# Altium schematic symbol library kmilo17pet-Microchip_MixedSignal.SchLib: 1399 symbols (part 19 of 36)
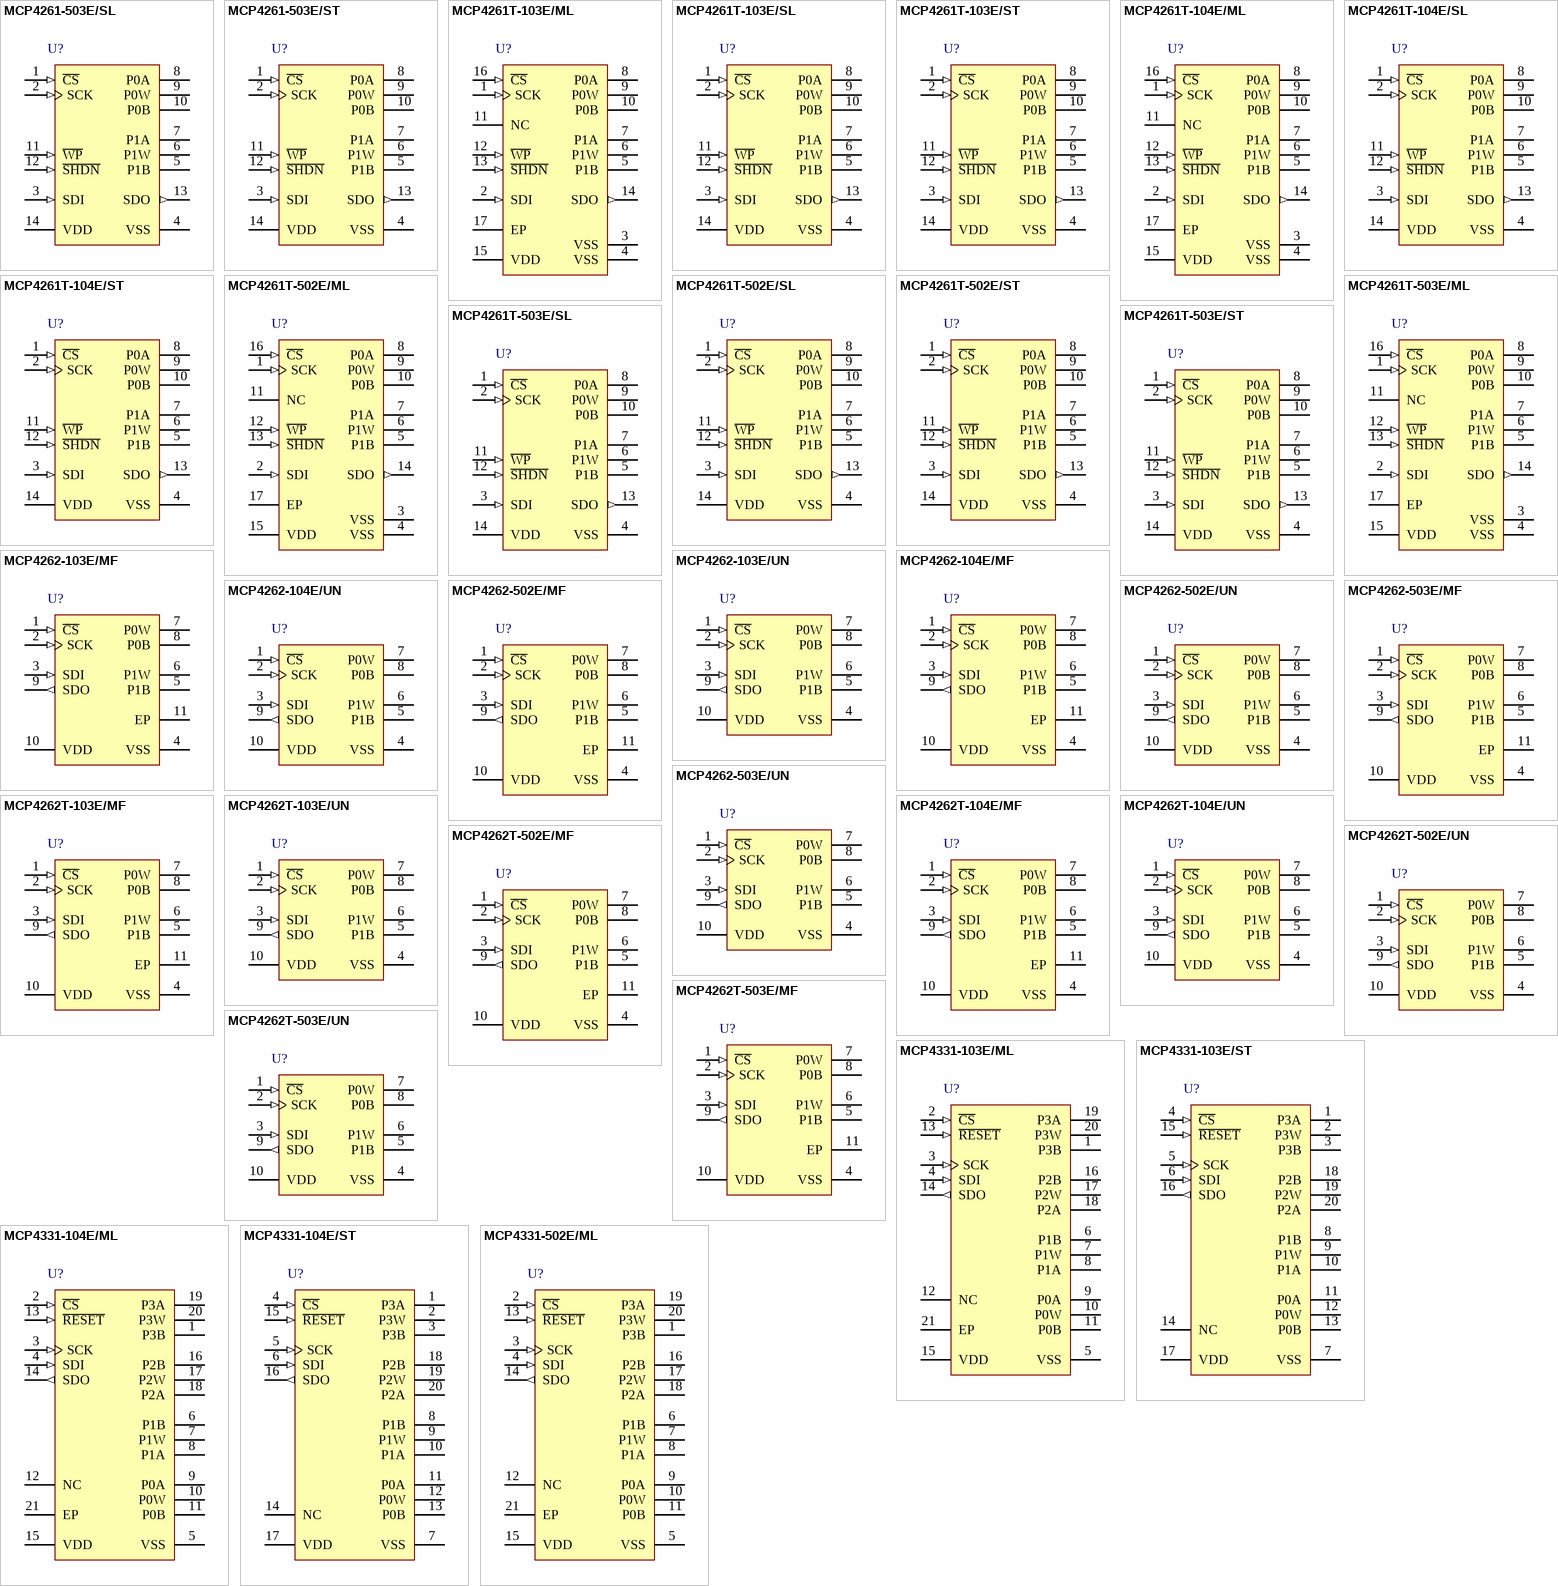
[diagram p62: symbols MCP4261-503E/SL to MCP4331-502E/ML]

## MCP4331-103E/ML
designator U?
7/8-Bit Quad SPI Digital POT with Volatile Memory, 20-Pin QFN, Extended Temperature; Manufacturer: Microchip; PartNumber: MCP4331-103E/ML; DatasheetVersion: revA, Mar-2010; PackageVersion: revBB, Aug-2009; PackageReference: QFN-ML20; PackageDescription: 20-Lead Plastic Quad Flat, No Lead Package (ML) - 4x4x0.9 mm Body [QFN]; Supplier 1: Digi-Key; Supplier Part Number 1: MCP4331-103E/ML-ND; Mounting Technology: Surface Mount; ComponentLink1Description: Manufacturer URL; ComponentLink1URL: http://www.microchip.com/; ComponentLink2Description: Datasheet; ComponentLink2URL: http://ww1.microchip.com/downloads/en/DeviceDoc/22242A.pdf; ComponentLink3Description: Package Specification; ComponentLink3URL: http://www.microchip.com/stellent/groups/techpub_sg/documents/packagingspec/en012702.pdf
footprint QFN-ML20_N (QFN, 20-Leads, Body 4x4mm, Pitch 0.5mm, Thermal Pad 2.8x2.8mm, IPC Medium Density)
footprint QFN-ML20_L (QFN, 20-Leads, Body 4x4mm, Pitch 0.5mm, Thermal Pad 2.8x2.8mm, IPC High Density)
footprint QFN-ML20_M (QFN, 20-Leads, Body 4x4mm, Pitch 0.5mm, Thermal Pad 2.8x2.8mm, IPC Low Density)
pins: 1 P3B, 2 ~{CS} (in), 3 SCK (in), 4 SDI (in), 5 VSS (power), 6 P1B, 7 P1W, 8 P1A, 9 P0A, 10 P0W, 11 P0B, 12 NC, 13 ~{RESET} (in), 14 SDO (out), 15 VDD (power), 16 P2B, 17 P2W, 18 P2A, 19 P3A, 20 P3W, 21 EP

## MCP4331-103E/ST
designator U?
7/8-Bit Quad SPI Digital POT with Volatile Memory, 20-Pin TSSOP, Extended Temperature; Manufacturer: Microchip; PartNumber: MCP4331-103E/ST; DatasheetVersion: revA, Mar-2010; PackageVersion: revBB, Aug-2009; PackageReference: TSSOP-ST20; PackageDescription: 20-Lead Plastic Thin Shrink Small Outline (ST) - 4.4mm Body [TSSOP]; Supplier 1: Digi-Key; Supplier Part Number 1: MCP4331-103E/ST-ND; Mounting Technology: Surface Mount; Code_JEDEC: MO-153-AC; ComponentLink1Description: Manufacturer URL; ComponentLink1URL: http://www.microchip.com/; ComponentLink2Description: Datasheet; ComponentLink2URL: http://ww1.microchip.com/downloads/en/DeviceDoc/22242A.pdf; ComponentLink3Description: Package Specification; ComponentLink3URL: http://www.microchip.com/stellent/groups/techpub_sg/documents/packagingspec/en012702.pdf
footprint TSSOP-ST20_N (TSOP, 20-Leads, Body 6.5x4.4mm, Pitch 0.65mm, IPC Medium Density)
footprint TSSOP-ST20_L (TSOP, 20-Leads, Body 6.5x4.4mm, Pitch 0.65mm, IPC High Density)
footprint TSSOP-ST20_M (TSOP, 20-Leads, Body 6.5x4.4mm, Pitch 0.65mm, IPC Low Density)
pins: 1 P3A, 2 P3W, 3 P3B, 4 ~{CS} (in), 5 SCK (in), 6 SDI (in), 7 VSS (power), 8 P1B, 9 P1W, 10 P1A, 11 P0A, 12 P0W, 13 P0B, 14 NC, 15 ~{RESET} (in), 16 SDO (out), 17 VDD (power), 18 P2B, 19 P2W, 20 P2A

## MCP4331-104E/ML
designator U?
7/8-Bit Quad SPI Digital POT with Volatile Memory, 20-Pin QFN, Extended Temperature; Manufacturer: Microchip; PartNumber: MCP4331-104E/ML; DatasheetVersion: revA, Mar-2010; PackageVersion: revBB, Aug-2009; PackageReference: QFN-ML20; PackageDescription: 20-Lead Plastic Quad Flat, No Lead Package (ML) - 4x4x0.9 mm Body [QFN]; Supplier 1: Digi-Key; Supplier Part Number 1: MCP4331-104E/ML-ND; Mounting Technology: Surface Mount; ComponentLink1Description: Manufacturer URL; ComponentLink1URL: http://www.microchip.com/; ComponentLink2Description: Datasheet; ComponentLink2URL: http://ww1.microchip.com/downloads/en/DeviceDoc/22242A.pdf; ComponentLink3Description: Package Specification; ComponentLink3URL: http://www.microchip.com/stellent/groups/techpub_sg/documents/packagingspec/en012702.pdf
footprint QFN-ML20_N (QFN, 20-Leads, Body 4x4mm, Pitch 0.5mm, Thermal Pad 2.8x2.8mm, IPC Medium Density)
footprint QFN-ML20_L (QFN, 20-Leads, Body 4x4mm, Pitch 0.5mm, Thermal Pad 2.8x2.8mm, IPC High Density)
footprint QFN-ML20_M (QFN, 20-Leads, Body 4x4mm, Pitch 0.5mm, Thermal Pad 2.8x2.8mm, IPC Low Density)
pins: 1 P3B, 2 ~{CS} (in), 3 SCK (in), 4 SDI (in), 5 VSS (power), 6 P1B, 7 P1W, 8 P1A, 9 P0A, 10 P0W, 11 P0B, 12 NC, 13 ~{RESET} (in), 14 SDO (out), 15 VDD (power), 16 P2B, 17 P2W, 18 P2A, 19 P3A, 20 P3W, 21 EP

## MCP4331-104E/ST
designator U?
7/8-Bit Quad SPI Digital POT with Volatile Memory, 20-Pin TSSOP, Extended Temperature; Manufacturer: Microchip; PartNumber: MCP4331-104E/ST; DatasheetVersion: revA, Mar-2010; PackageVersion: revBB, Aug-2009; PackageReference: TSSOP-ST20; PackageDescription: 20-Lead Plastic Thin Shrink Small Outline (ST) - 4.4mm Body [TSSOP]; Supplier 1: Digi-Key; Supplier Part Number 1: MCP4331-104E/ST-ND; Mounting Technology: Surface Mount; Code_JEDEC: MO-153-AC; ComponentLink1Description: Manufacturer URL; ComponentLink1URL: http://www.microchip.com/; ComponentLink2Description: Datasheet; ComponentLink2URL: http://ww1.microchip.com/downloads/en/DeviceDoc/22242A.pdf; ComponentLink3Description: Package Specification; ComponentLink3URL: http://www.microchip.com/stellent/groups/techpub_sg/documents/packagingspec/en012702.pdf
footprint TSSOP-ST20_N (TSOP, 20-Leads, Body 6.5x4.4mm, Pitch 0.65mm, IPC Medium Density)
footprint TSSOP-ST20_L (TSOP, 20-Leads, Body 6.5x4.4mm, Pitch 0.65mm, IPC High Density)
footprint TSSOP-ST20_M (TSOP, 20-Leads, Body 6.5x4.4mm, Pitch 0.65mm, IPC Low Density)
pins: 1 P3A, 2 P3W, 3 P3B, 4 ~{CS} (in), 5 SCK (in), 6 SDI (in), 7 VSS (power), 8 P1B, 9 P1W, 10 P1A, 11 P0A, 12 P0W, 13 P0B, 14 NC, 15 ~{RESET} (in), 16 SDO (out), 17 VDD (power), 18 P2B, 19 P2W, 20 P2A

## MCP4331-502E/ML
designator U?
7/8-Bit Quad SPI Digital POT with Volatile Memory, 20-Pin QFN, Extended Temperature; Manufacturer: Microchip; PartNumber: MCP4331-502E/ML; DatasheetVersion: revA, Mar-2010; PackageVersion: revBB, Aug-2009; PackageReference: QFN-ML20; PackageDescription: 20-Lead Plastic Quad Flat, No Lead Package (ML) - 4x4x0.9 mm Body [QFN]; Supplier 1: Digi-Key; Supplier Part Number 1: MCP4331-502E/ML-ND; Mounting Technology: Surface Mount; ComponentLink1Description: Manufacturer URL; ComponentLink1URL: http://www.microchip.com/; ComponentLink2Description: Datasheet; ComponentLink2URL: http://ww1.microchip.com/downloads/en/DeviceDoc/22242A.pdf; ComponentLink3Description: Package Specification; ComponentLink3URL: http://www.microchip.com/stellent/groups/techpub_sg/documents/packagingspec/en012702.pdf
footprint QFN-ML20_N (QFN, 20-Leads, Body 4x4mm, Pitch 0.5mm, Thermal Pad 2.8x2.8mm, IPC Medium Density)
footprint QFN-ML20_L (QFN, 20-Leads, Body 4x4mm, Pitch 0.5mm, Thermal Pad 2.8x2.8mm, IPC High Density)
footprint QFN-ML20_M (QFN, 20-Leads, Body 4x4mm, Pitch 0.5mm, Thermal Pad 2.8x2.8mm, IPC Low Density)
pins: 1 P3B, 2 ~{CS} (in), 3 SCK (in), 4 SDI (in), 5 VSS (power), 6 P1B, 7 P1W, 8 P1A, 9 P0A, 10 P0W, 11 P0B, 12 NC, 13 ~{RESET} (in), 14 SDO (out), 15 VDD (power), 16 P2B, 17 P2W, 18 P2A, 19 P3A, 20 P3W, 21 EP

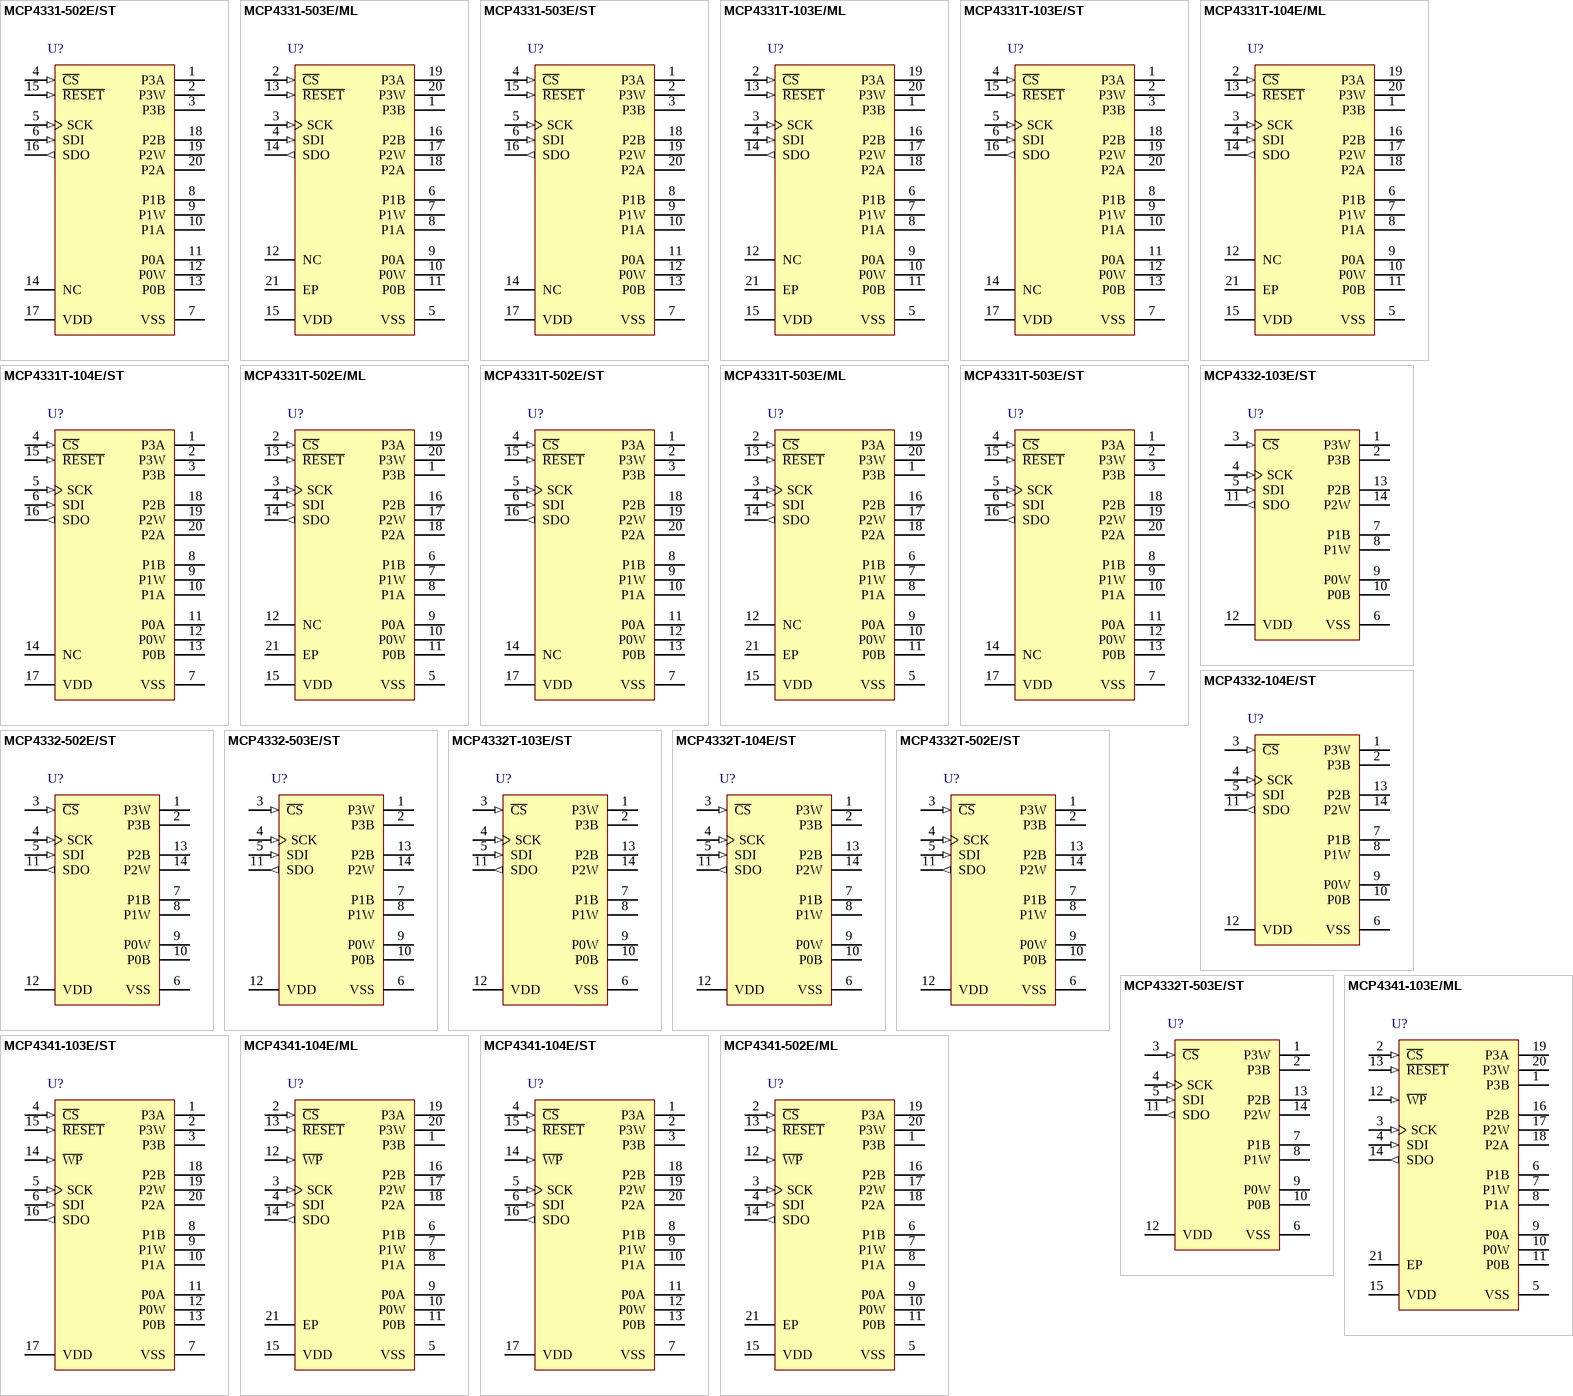
[diagram p20: symbols MCP4331-502E/ST to MCP4341-502E/ML]

## MCP4331-502E/ST
designator U?
7/8-Bit Quad SPI Digital POT with Volatile Memory, 20-Pin TSSOP, Extended Temperature; Manufacturer: Microchip; PartNumber: MCP4331-502E/ST; DatasheetVersion: revA, Mar-2010; PackageVersion: revBB, Aug-2009; PackageReference: TSSOP-ST20; PackageDescription: 20-Lead Plastic Thin Shrink Small Outline (ST) - 4.4mm Body [TSSOP]; Supplier 1: Digi-Key; Supplier Part Number 1: MCP4331-502E/ST-ND; Mounting Technology: Surface Mount; Code_JEDEC: MO-153-AC; ComponentLink1Description: Manufacturer URL; ComponentLink1URL: http://www.microchip.com/; ComponentLink2Description: Datasheet; ComponentLink2URL: http://ww1.microchip.com/downloads/en/DeviceDoc/22242A.pdf; ComponentLink3Description: Package Specification; ComponentLink3URL: http://www.microchip.com/stellent/groups/techpub_sg/documents/packagingspec/en012702.pdf
footprint TSSOP-ST20_N (TSOP, 20-Leads, Body 6.5x4.4mm, Pitch 0.65mm, IPC Medium Density)
footprint TSSOP-ST20_L (TSOP, 20-Leads, Body 6.5x4.4mm, Pitch 0.65mm, IPC High Density)
footprint TSSOP-ST20_M (TSOP, 20-Leads, Body 6.5x4.4mm, Pitch 0.65mm, IPC Low Density)
pins: 1 P3A, 2 P3W, 3 P3B, 4 ~{CS} (in), 5 SCK (in), 6 SDI (in), 7 VSS (power), 8 P1B, 9 P1W, 10 P1A, 11 P0A, 12 P0W, 13 P0B, 14 NC, 15 ~{RESET} (in), 16 SDO (out), 17 VDD (power), 18 P2B, 19 P2W, 20 P2A

## MCP4331-503E/ML
designator U?
7/8-Bit Quad SPI Digital POT with Volatile Memory, 20-Pin QFN, Extended Temperature; Manufacturer: Microchip; PartNumber: MCP4331-503E/ML; DatasheetVersion: revA, Mar-2010; PackageVersion: revBB, Aug-2009; PackageReference: QFN-ML20; PackageDescription: 20-Lead Plastic Quad Flat, No Lead Package (ML) - 4x4x0.9 mm Body [QFN]; Supplier 1: Digi-Key; Supplier Part Number 1: MCP4331-503E/ML-ND; Mounting Technology: Surface Mount; ComponentLink1Description: Manufacturer URL; ComponentLink1URL: http://www.microchip.com/; ComponentLink2Description: Datasheet; ComponentLink2URL: http://ww1.microchip.com/downloads/en/DeviceDoc/22242A.pdf; ComponentLink3Description: Package Specification; ComponentLink3URL: http://www.microchip.com/stellent/groups/techpub_sg/documents/packagingspec/en012702.pdf
footprint QFN-ML20_N (QFN, 20-Leads, Body 4x4mm, Pitch 0.5mm, Thermal Pad 2.8x2.8mm, IPC Medium Density)
footprint QFN-ML20_L (QFN, 20-Leads, Body 4x4mm, Pitch 0.5mm, Thermal Pad 2.8x2.8mm, IPC High Density)
footprint QFN-ML20_M (QFN, 20-Leads, Body 4x4mm, Pitch 0.5mm, Thermal Pad 2.8x2.8mm, IPC Low Density)
pins: 1 P3B, 2 ~{CS} (in), 3 SCK (in), 4 SDI (in), 5 VSS (power), 6 P1B, 7 P1W, 8 P1A, 9 P0A, 10 P0W, 11 P0B, 12 NC, 13 ~{RESET} (in), 14 SDO (out), 15 VDD (power), 16 P2B, 17 P2W, 18 P2A, 19 P3A, 20 P3W, 21 EP

## MCP4331-503E/ST
designator U?
7/8-Bit Quad SPI Digital POT with Volatile Memory, 20-Pin TSSOP, Extended Temperature; Manufacturer: Microchip; PartNumber: MCP4331-503E/ST; DatasheetVersion: revA, Mar-2010; PackageVersion: revBB, Aug-2009; PackageReference: TSSOP-ST20; PackageDescription: 20-Lead Plastic Thin Shrink Small Outline (ST) - 4.4mm Body [TSSOP]; Supplier 1: Digi-Key; Supplier Part Number 1: MCP4331-503E/ST-ND; Mounting Technology: Surface Mount; Code_JEDEC: MO-153-AC; ComponentLink1Description: Manufacturer URL; ComponentLink1URL: http://www.microchip.com/; ComponentLink2Description: Datasheet; ComponentLink2URL: http://ww1.microchip.com/downloads/en/DeviceDoc/22242A.pdf; ComponentLink3Description: Package Specification; ComponentLink3URL: http://www.microchip.com/stellent/groups/techpub_sg/documents/packagingspec/en012702.pdf
footprint TSSOP-ST20_N (TSOP, 20-Leads, Body 6.5x4.4mm, Pitch 0.65mm, IPC Medium Density)
footprint TSSOP-ST20_L (TSOP, 20-Leads, Body 6.5x4.4mm, Pitch 0.65mm, IPC High Density)
footprint TSSOP-ST20_M (TSOP, 20-Leads, Body 6.5x4.4mm, Pitch 0.65mm, IPC Low Density)
pins: 1 P3A, 2 P3W, 3 P3B, 4 ~{CS} (in), 5 SCK (in), 6 SDI (in), 7 VSS (power), 8 P1B, 9 P1W, 10 P1A, 11 P0A, 12 P0W, 13 P0B, 14 NC, 15 ~{RESET} (in), 16 SDO (out), 17 VDD (power), 18 P2B, 19 P2W, 20 P2A

## MCP4331T-103E/ML
designator U?
7/8-Bit Quad SPI Digital POT with Volatile Memory, 20-Pin QFN, Extended Temperature, Tape and Reel; Manufacturer: Microchip; PartNumber: MCP4331T-103E/ML; DatasheetVersion: revA, Mar-2010; PackageVersion: revBB, Aug-2009; PackageReference: QFN-ML20; PackageDescription: 20-Lead Plastic Quad Flat, No Lead Package (ML) - 4x4x0.9 mm Body [QFN]; Supplier 1: Digi-Key; Supplier Part Number 1: MCP4331T-103E/ML-ND; Mounting Technology: Surface Mount; ComponentLink1Description: Manufacturer URL; ComponentLink1URL: http://www.microchip.com/; ComponentLink2Description: Datasheet; ComponentLink2URL: http://ww1.microchip.com/downloads/en/DeviceDoc/22242A.pdf; ComponentLink3Description: Package Specification; ComponentLink3URL: http://www.microchip.com/stellent/groups/techpub_sg/documents/packagingspec/en012702.pdf
footprint QFN-ML20_N (QFN, 20-Leads, Body 4x4mm, Pitch 0.5mm, Thermal Pad 2.8x2.8mm, IPC Medium Density)
footprint QFN-ML20_L (QFN, 20-Leads, Body 4x4mm, Pitch 0.5mm, Thermal Pad 2.8x2.8mm, IPC High Density)
footprint QFN-ML20_M (QFN, 20-Leads, Body 4x4mm, Pitch 0.5mm, Thermal Pad 2.8x2.8mm, IPC Low Density)
pins: 1 P3B, 2 ~{CS} (in), 3 SCK (in), 4 SDI (in), 5 VSS (power), 6 P1B, 7 P1W, 8 P1A, 9 P0A, 10 P0W, 11 P0B, 12 NC, 13 ~{RESET} (in), 14 SDO (out), 15 VDD (power), 16 P2B, 17 P2W, 18 P2A, 19 P3A, 20 P3W, 21 EP

## MCP4331T-103E/ST
designator U?
7/8-Bit Quad SPI Digital POT with Volatile Memory, 20-Pin TSSOP, Extended Temperature, Tape and Reel; Manufacturer: Microchip; PartNumber: MCP4331T-103E/ST; DatasheetVersion: revA, Mar-2010; PackageVersion: revBB, Aug-2009; PackageReference: TSSOP-ST20; PackageDescription: 20-Lead Plastic Thin Shrink Small Outline (ST) - 4.4mm Body [TSSOP]; Supplier 1: Digi-Key; Supplier Part Number 1: MCP4331T-103E/ST-ND; Mounting Technology: Surface Mount; Code_JEDEC: MO-153-AC; ComponentLink1Description: Manufacturer URL; ComponentLink1URL: http://www.microchip.com/; ComponentLink2Description: Datasheet; ComponentLink2URL: http://ww1.microchip.com/downloads/en/DeviceDoc/22242A.pdf; ComponentLink3Description: Package Specification; ComponentLink3URL: http://www.microchip.com/stellent/groups/techpub_sg/documents/packagingspec/en012702.pdf
footprint TSSOP-ST20_N (TSOP, 20-Leads, Body 6.5x4.4mm, Pitch 0.65mm, IPC Medium Density)
footprint TSSOP-ST20_L (TSOP, 20-Leads, Body 6.5x4.4mm, Pitch 0.65mm, IPC High Density)
footprint TSSOP-ST20_M (TSOP, 20-Leads, Body 6.5x4.4mm, Pitch 0.65mm, IPC Low Density)
pins: 1 P3A, 2 P3W, 3 P3B, 4 ~{CS} (in), 5 SCK (in), 6 SDI (in), 7 VSS (power), 8 P1B, 9 P1W, 10 P1A, 11 P0A, 12 P0W, 13 P0B, 14 NC, 15 ~{RESET} (in), 16 SDO (out), 17 VDD (power), 18 P2B, 19 P2W, 20 P2A

## MCP4331T-104E/ML
designator U?
7/8-Bit Quad SPI Digital POT with Volatile Memory, 20-Pin QFN, Extended Temperature, Tape and Reel; Manufacturer: Microchip; PartNumber: MCP4331T-104E/ML; DatasheetVersion: revA, Mar-2010; PackageVersion: revBB, Aug-2009; PackageReference: QFN-ML20; PackageDescription: 20-Lead Plastic Quad Flat, No Lead Package (ML) - 4x4x0.9 mm Body [QFN]; Supplier 1: Digi-Key; Supplier Part Number 1: MCP4331T-104E/ML-ND; Mounting Technology: Surface Mount; ComponentLink1Description: Manufacturer URL; ComponentLink1URL: http://www.microchip.com/; ComponentLink2Description: Datasheet; ComponentLink2URL: http://ww1.microchip.com/downloads/en/DeviceDoc/22242A.pdf; ComponentLink3Description: Package Specification; ComponentLink3URL: http://www.microchip.com/stellent/groups/techpub_sg/documents/packagingspec/en012702.pdf
footprint QFN-ML20_N (QFN, 20-Leads, Body 4x4mm, Pitch 0.5mm, Thermal Pad 2.8x2.8mm, IPC Medium Density)
footprint QFN-ML20_L (QFN, 20-Leads, Body 4x4mm, Pitch 0.5mm, Thermal Pad 2.8x2.8mm, IPC High Density)
footprint QFN-ML20_M (QFN, 20-Leads, Body 4x4mm, Pitch 0.5mm, Thermal Pad 2.8x2.8mm, IPC Low Density)
pins: 1 P3B, 2 ~{CS} (in), 3 SCK (in), 4 SDI (in), 5 VSS (power), 6 P1B, 7 P1W, 8 P1A, 9 P0A, 10 P0W, 11 P0B, 12 NC, 13 ~{RESET} (in), 14 SDO (out), 15 VDD (power), 16 P2B, 17 P2W, 18 P2A, 19 P3A, 20 P3W, 21 EP

## MCP4331T-104E/ST
designator U?
7/8-Bit Quad SPI Digital POT with Volatile Memory, 20-Pin TSSOP, Extended Temperature, Tape and Reel; Manufacturer: Microchip; PartNumber: MCP4331T-104E/ST; DatasheetVersion: revA, Mar-2010; PackageVersion: revBB, Aug-2009; PackageReference: TSSOP-ST20; PackageDescription: 20-Lead Plastic Thin Shrink Small Outline (ST) - 4.4mm Body [TSSOP]; Supplier 1: Digi-Key; Supplier Part Number 1: MCP4331T-104E/ST-ND; Mounting Technology: Surface Mount; Code_JEDEC: MO-153-AC; ComponentLink1Description: Manufacturer URL; ComponentLink1URL: http://www.microchip.com/; ComponentLink2Description: Datasheet; ComponentLink2URL: http://ww1.microchip.com/downloads/en/DeviceDoc/22242A.pdf; ComponentLink3Description: Package Specification; ComponentLink3URL: http://www.microchip.com/stellent/groups/techpub_sg/documents/packagingspec/en012702.pdf
footprint TSSOP-ST20_N (TSOP, 20-Leads, Body 6.5x4.4mm, Pitch 0.65mm, IPC Medium Density)
footprint TSSOP-ST20_L (TSOP, 20-Leads, Body 6.5x4.4mm, Pitch 0.65mm, IPC High Density)
footprint TSSOP-ST20_M (TSOP, 20-Leads, Body 6.5x4.4mm, Pitch 0.65mm, IPC Low Density)
pins: 1 P3A, 2 P3W, 3 P3B, 4 ~{CS} (in), 5 SCK (in), 6 SDI (in), 7 VSS (power), 8 P1B, 9 P1W, 10 P1A, 11 P0A, 12 P0W, 13 P0B, 14 NC, 15 ~{RESET} (in), 16 SDO (out), 17 VDD (power), 18 P2B, 19 P2W, 20 P2A

## MCP4331T-502E/ML
designator U?
7/8-Bit Quad SPI Digital POT with Volatile Memory, 20-Pin QFN, Extended Temperature, Tape and Reel; Manufacturer: Microchip; PartNumber: MCP4331T-502E/ML; DatasheetVersion: revA, Mar-2010; PackageVersion: revBB, Aug-2009; PackageReference: QFN-ML20; PackageDescription: 20-Lead Plastic Quad Flat, No Lead Package (ML) - 4x4x0.9 mm Body [QFN]; Supplier 1: Digi-Key; Supplier Part Number 1: MCP4331T-502E/ML-ND; Mounting Technology: Surface Mount; ComponentLink1Description: Manufacturer URL; ComponentLink1URL: http://www.microchip.com/; ComponentLink2Description: Datasheet; ComponentLink2URL: http://ww1.microchip.com/downloads/en/DeviceDoc/22242A.pdf; ComponentLink3Description: Package Specification; ComponentLink3URL: http://www.microchip.com/stellent/groups/techpub_sg/documents/packagingspec/en012702.pdf
footprint QFN-ML20_N (QFN, 20-Leads, Body 4x4mm, Pitch 0.5mm, Thermal Pad 2.8x2.8mm, IPC Medium Density)
footprint QFN-ML20_L (QFN, 20-Leads, Body 4x4mm, Pitch 0.5mm, Thermal Pad 2.8x2.8mm, IPC High Density)
footprint QFN-ML20_M (QFN, 20-Leads, Body 4x4mm, Pitch 0.5mm, Thermal Pad 2.8x2.8mm, IPC Low Density)
pins: 1 P3B, 2 ~{CS} (in), 3 SCK (in), 4 SDI (in), 5 VSS (power), 6 P1B, 7 P1W, 8 P1A, 9 P0A, 10 P0W, 11 P0B, 12 NC, 13 ~{RESET} (in), 14 SDO (out), 15 VDD (power), 16 P2B, 17 P2W, 18 P2A, 19 P3A, 20 P3W, 21 EP

## MCP4331T-502E/ST
designator U?
7/8-Bit Quad SPI Digital POT with Volatile Memory, 20-Pin TSSOP, Extended Temperature, Tape and Reel; Manufacturer: Microchip; PartNumber: MCP4331T-502E/ST; DatasheetVersion: revA, Mar-2010; PackageVersion: revBB, Aug-2009; PackageReference: TSSOP-ST20; PackageDescription: 20-Lead Plastic Thin Shrink Small Outline (ST) - 4.4mm Body [TSSOP]; Supplier 1: Digi-Key; Supplier Part Number 1: MCP4331T-502E/ST-ND; Mounting Technology: Surface Mount; Code_JEDEC: MO-153-AC; ComponentLink1Description: Manufacturer URL; ComponentLink1URL: http://www.microchip.com/; ComponentLink2Description: Datasheet; ComponentLink2URL: http://ww1.microchip.com/downloads/en/DeviceDoc/22242A.pdf; ComponentLink3Description: Package Specification; ComponentLink3URL: http://www.microchip.com/stellent/groups/techpub_sg/documents/packagingspec/en012702.pdf
footprint TSSOP-ST20_N (TSOP, 20-Leads, Body 6.5x4.4mm, Pitch 0.65mm, IPC Medium Density)
footprint TSSOP-ST20_L (TSOP, 20-Leads, Body 6.5x4.4mm, Pitch 0.65mm, IPC High Density)
footprint TSSOP-ST20_M (TSOP, 20-Leads, Body 6.5x4.4mm, Pitch 0.65mm, IPC Low Density)
pins: 1 P3A, 2 P3W, 3 P3B, 4 ~{CS} (in), 5 SCK (in), 6 SDI (in), 7 VSS (power), 8 P1B, 9 P1W, 10 P1A, 11 P0A, 12 P0W, 13 P0B, 14 NC, 15 ~{RESET} (in), 16 SDO (out), 17 VDD (power), 18 P2B, 19 P2W, 20 P2A

## MCP4331T-503E/ML
designator U?
7/8-Bit Quad SPI Digital POT with Volatile Memory, 20-Pin QFN, Extended Temperature, Tape and Reel; Manufacturer: Microchip; PartNumber: MCP4331T-503E/ML; DatasheetVersion: revA, Mar-2010; PackageVersion: revBB, Aug-2009; PackageReference: QFN-ML20; PackageDescription: 20-Lead Plastic Quad Flat, No Lead Package (ML) - 4x4x0.9 mm Body [QFN]; Supplier 1: Digi-Key; Supplier Part Number 1: MCP4331T-503E/ML-ND; Mounting Technology: Surface Mount; ComponentLink1Description: Manufacturer URL; ComponentLink1URL: http://www.microchip.com/; ComponentLink2Description: Datasheet; ComponentLink2URL: http://ww1.microchip.com/downloads/en/DeviceDoc/22242A.pdf; ComponentLink3Description: Package Specification; ComponentLink3URL: http://www.microchip.com/stellent/groups/techpub_sg/documents/packagingspec/en012702.pdf
footprint QFN-ML20_N (QFN, 20-Leads, Body 4x4mm, Pitch 0.5mm, Thermal Pad 2.8x2.8mm, IPC Medium Density)
footprint QFN-ML20_L (QFN, 20-Leads, Body 4x4mm, Pitch 0.5mm, Thermal Pad 2.8x2.8mm, IPC High Density)
footprint QFN-ML20_M (QFN, 20-Leads, Body 4x4mm, Pitch 0.5mm, Thermal Pad 2.8x2.8mm, IPC Low Density)
pins: 1 P3B, 2 ~{CS} (in), 3 SCK (in), 4 SDI (in), 5 VSS (power), 6 P1B, 7 P1W, 8 P1A, 9 P0A, 10 P0W, 11 P0B, 12 NC, 13 ~{RESET} (in), 14 SDO (out), 15 VDD (power), 16 P2B, 17 P2W, 18 P2A, 19 P3A, 20 P3W, 21 EP

## MCP4331T-503E/ST
designator U?
7/8-Bit Quad SPI Digital POT with Volatile Memory, 20-Pin TSSOP, Extended Temperature, Tape and Reel; Manufacturer: Microchip; PartNumber: MCP4331T-503E/ST; DatasheetVersion: revA, Mar-2010; PackageVersion: revBB, Aug-2009; PackageReference: TSSOP-ST20; PackageDescription: 20-Lead Plastic Thin Shrink Small Outline (ST) - 4.4mm Body [TSSOP]; Supplier 1: Digi-Key; Supplier Part Number 1: MCP4331T-503E/ST-ND; Mounting Technology: Surface Mount; Code_JEDEC: MO-153-AC; ComponentLink1Description: Manufacturer URL; ComponentLink1URL: http://www.microchip.com/; ComponentLink2Description: Datasheet; ComponentLink2URL: http://ww1.microchip.com/downloads/en/DeviceDoc/22242A.pdf; ComponentLink3Description: Package Specification; ComponentLink3URL: http://www.microchip.com/stellent/groups/techpub_sg/documents/packagingspec/en012702.pdf
footprint TSSOP-ST20_N (TSOP, 20-Leads, Body 6.5x4.4mm, Pitch 0.65mm, IPC Medium Density)
footprint TSSOP-ST20_L (TSOP, 20-Leads, Body 6.5x4.4mm, Pitch 0.65mm, IPC High Density)
footprint TSSOP-ST20_M (TSOP, 20-Leads, Body 6.5x4.4mm, Pitch 0.65mm, IPC Low Density)
pins: 1 P3A, 2 P3W, 3 P3B, 4 ~{CS} (in), 5 SCK (in), 6 SDI (in), 7 VSS (power), 8 P1B, 9 P1W, 10 P1A, 11 P0A, 12 P0W, 13 P0B, 14 NC, 15 ~{RESET} (in), 16 SDO (out), 17 VDD (power), 18 P2B, 19 P2W, 20 P2A

## MCP4332-103E/ST
designator U?
7/8-Bit Quad SPI Digital POT with Volatile Memory, 14-Pin TSSOP, Extended Temperature; Manufacturer: Microchip; PartNumber: MCP4332-103E/ST; DatasheetVersion: revA, Mar-2010; PackageVersion: revBB, Aug-2009; PackageReference: TSSOP-ST14; PackageDescription: 14-Lead Plastic Thin Shrink Small Outline (ST) - 4.4mm Body [TSSOP]; Supplier 1: Digi-Key; Supplier Part Number 1: MCP4332-103E/ST-ND; Mounting Technology: Surface Mount; ComponentLink1Description: Manufacturer URL; ComponentLink1URL: http://www.microchip.com/; ComponentLink2Description: Datasheet; ComponentLink2URL: http://ww1.microchip.com/downloads/en/DeviceDoc/22242A.pdf; ComponentLink3Description: Package Specification; ComponentLink3URL: http://www.microchip.com/stellent/groups/techpub_sg/documents/packagingspec/en012702.pdf
footprint TSSOP-ST14_N (TSOP, 14-Leads, Body 5x4.4mm, Pitch 0.65mm, IPC Medium Density)
footprint TSSOP-ST14_L (TSOP, 14-Leads, Body 5x4.4mm, Pitch 0.65mm, IPC High Density)
footprint TSSOP-ST14_M (TSOP, 14-Leads, Body 5x4.4mm, Pitch 0.65mm, IPC Low Density)
pins: 1 P3W, 2 P3B, 3 ~{CS} (in), 4 SCK (in), 5 SDI (in), 6 VSS (power), 7 P1B, 8 P1W, 9 P0W, 10 P0B, 11 SDO (out), 12 VDD (power), 13 P2B, 14 P2W

## MCP4332-104E/ST
designator U?
7/8-Bit Quad SPI Digital POT with Volatile Memory, 14-Pin TSSOP, Extended Temperature; Manufacturer: Microchip; PartNumber: MCP4332-104E/ST; DatasheetVersion: revA, Mar-2010; PackageVersion: revBB, Aug-2009; PackageReference: TSSOP-ST14; PackageDescription: 14-Lead Plastic Thin Shrink Small Outline (ST) - 4.4mm Body [TSSOP]; Supplier 1: Digi-Key; Supplier Part Number 1: MCP4332-104E/ST-ND; Mounting Technology: Surface Mount; ComponentLink1Description: Manufacturer URL; ComponentLink1URL: http://www.microchip.com/; ComponentLink2Description: Datasheet; ComponentLink2URL: http://ww1.microchip.com/downloads/en/DeviceDoc/22242A.pdf; ComponentLink3Description: Package Specification; ComponentLink3URL: http://www.microchip.com/stellent/groups/techpub_sg/documents/packagingspec/en012702.pdf
footprint TSSOP-ST14_N (TSOP, 14-Leads, Body 5x4.4mm, Pitch 0.65mm, IPC Medium Density)
footprint TSSOP-ST14_L (TSOP, 14-Leads, Body 5x4.4mm, Pitch 0.65mm, IPC High Density)
footprint TSSOP-ST14_M (TSOP, 14-Leads, Body 5x4.4mm, Pitch 0.65mm, IPC Low Density)
pins: 1 P3W, 2 P3B, 3 ~{CS} (in), 4 SCK (in), 5 SDI (in), 6 VSS (power), 7 P1B, 8 P1W, 9 P0W, 10 P0B, 11 SDO (out), 12 VDD (power), 13 P2B, 14 P2W

## MCP4332-502E/ST
designator U?
7/8-Bit Quad SPI Digital POT with Volatile Memory, 14-Pin TSSOP, Extended Temperature; Manufacturer: Microchip; PartNumber: MCP4332-502E/ST; DatasheetVersion: revA, Mar-2010; PackageVersion: revBB, Aug-2009; PackageReference: TSSOP-ST14; PackageDescription: 14-Lead Plastic Thin Shrink Small Outline (ST) - 4.4mm Body [TSSOP]; Supplier 1: Digi-Key; Supplier Part Number 1: MCP4332-502E/ST-ND; Mounting Technology: Surface Mount; ComponentLink1Description: Manufacturer URL; ComponentLink1URL: http://www.microchip.com/; ComponentLink2Description: Datasheet; ComponentLink2URL: http://ww1.microchip.com/downloads/en/DeviceDoc/22242A.pdf; ComponentLink3Description: Package Specification; ComponentLink3URL: http://www.microchip.com/stellent/groups/techpub_sg/documents/packagingspec/en012702.pdf
footprint TSSOP-ST14_N (TSOP, 14-Leads, Body 5x4.4mm, Pitch 0.65mm, IPC Medium Density)
footprint TSSOP-ST14_L (TSOP, 14-Leads, Body 5x4.4mm, Pitch 0.65mm, IPC High Density)
footprint TSSOP-ST14_M (TSOP, 14-Leads, Body 5x4.4mm, Pitch 0.65mm, IPC Low Density)
pins: 1 P3W, 2 P3B, 3 ~{CS} (in), 4 SCK (in), 5 SDI (in), 6 VSS (power), 7 P1B, 8 P1W, 9 P0W, 10 P0B, 11 SDO (out), 12 VDD (power), 13 P2B, 14 P2W

## MCP4332-503E/ST
designator U?
7/8-Bit Quad SPI Digital POT with Volatile Memory, 14-Pin TSSOP, Extended Temperature; Manufacturer: Microchip; PartNumber: MCP4332-503E/ST; DatasheetVersion: revA, Mar-2010; PackageVersion: revBB, Aug-2009; PackageReference: TSSOP-ST14; PackageDescription: 14-Lead Plastic Thin Shrink Small Outline (ST) - 4.4mm Body [TSSOP]; Supplier 1: Digi-Key; Supplier Part Number 1: MCP4332-503E/ST-ND; Mounting Technology: Surface Mount; ComponentLink1Description: Manufacturer URL; ComponentLink1URL: http://www.microchip.com/; ComponentLink2Description: Datasheet; ComponentLink2URL: http://ww1.microchip.com/downloads/en/DeviceDoc/22242A.pdf; ComponentLink3Description: Package Specification; ComponentLink3URL: http://www.microchip.com/stellent/groups/techpub_sg/documents/packagingspec/en012702.pdf
footprint TSSOP-ST14_N (TSOP, 14-Leads, Body 5x4.4mm, Pitch 0.65mm, IPC Medium Density)
footprint TSSOP-ST14_L (TSOP, 14-Leads, Body 5x4.4mm, Pitch 0.65mm, IPC High Density)
footprint TSSOP-ST14_M (TSOP, 14-Leads, Body 5x4.4mm, Pitch 0.65mm, IPC Low Density)
pins: 1 P3W, 2 P3B, 3 ~{CS} (in), 4 SCK (in), 5 SDI (in), 6 VSS (power), 7 P1B, 8 P1W, 9 P0W, 10 P0B, 11 SDO (out), 12 VDD (power), 13 P2B, 14 P2W

## MCP4332T-103E/ST
designator U?
7/8-Bit Quad SPI Digital POT with Volatile Memory, 14-Pin TSSOP, Extended Temperature, Tape and Reel; Manufacturer: Microchip; PartNumber: MCP4332T-103E/ST; DatasheetVersion: revA, Mar-2010; PackageVersion: revBB, Aug-2009; PackageReference: TSSOP-ST14; PackageDescription: 14-Lead Plastic Thin Shrink Small Outline (ST) - 4.4mm Body [TSSOP]; Supplier 1: Digi-Key; Supplier Part Number 1: MCP4332T-103E/ST-ND; Mounting Technology: Surface Mount; ComponentLink1Description: Manufacturer URL; ComponentLink1URL: http://www.microchip.com/; ComponentLink2Description: Datasheet; ComponentLink2URL: http://ww1.microchip.com/downloads/en/DeviceDoc/22242A.pdf; ComponentLink3Description: Package Specification; ComponentLink3URL: http://www.microchip.com/stellent/groups/techpub_sg/documents/packagingspec/en012702.pdf
footprint TSSOP-ST14_N (TSOP, 14-Leads, Body 5x4.4mm, Pitch 0.65mm, IPC Medium Density)
footprint TSSOP-ST14_L (TSOP, 14-Leads, Body 5x4.4mm, Pitch 0.65mm, IPC High Density)
footprint TSSOP-ST14_M (TSOP, 14-Leads, Body 5x4.4mm, Pitch 0.65mm, IPC Low Density)
pins: 1 P3W, 2 P3B, 3 ~{CS} (in), 4 SCK (in), 5 SDI (in), 6 VSS (power), 7 P1B, 8 P1W, 9 P0W, 10 P0B, 11 SDO (out), 12 VDD (power), 13 P2B, 14 P2W

## MCP4332T-104E/ST
designator U?
7/8-Bit Quad SPI Digital POT with Volatile Memory, 14-Pin TSSOP, Extended Temperature, Tape and Reel; Manufacturer: Microchip; PartNumber: MCP4332T-104E/ST; DatasheetVersion: revA, Mar-2010; PackageVersion: revBB, Aug-2009; PackageReference: TSSOP-ST14; PackageDescription: 14-Lead Plastic Thin Shrink Small Outline (ST) - 4.4mm Body [TSSOP]; Supplier 1: Digi-Key; Supplier Part Number 1: MCP4332T-104E/ST-ND; Mounting Technology: Surface Mount; ComponentLink1Description: Manufacturer URL; ComponentLink1URL: http://www.microchip.com/; ComponentLink2Description: Datasheet; ComponentLink2URL: http://ww1.microchip.com/downloads/en/DeviceDoc/22242A.pdf; ComponentLink3Description: Package Specification; ComponentLink3URL: http://www.microchip.com/stellent/groups/techpub_sg/documents/packagingspec/en012702.pdf
footprint TSSOP-ST14_N (TSOP, 14-Leads, Body 5x4.4mm, Pitch 0.65mm, IPC Medium Density)
footprint TSSOP-ST14_L (TSOP, 14-Leads, Body 5x4.4mm, Pitch 0.65mm, IPC High Density)
footprint TSSOP-ST14_M (TSOP, 14-Leads, Body 5x4.4mm, Pitch 0.65mm, IPC Low Density)
pins: 1 P3W, 2 P3B, 3 ~{CS} (in), 4 SCK (in), 5 SDI (in), 6 VSS (power), 7 P1B, 8 P1W, 9 P0W, 10 P0B, 11 SDO (out), 12 VDD (power), 13 P2B, 14 P2W

## MCP4332T-502E/ST
designator U?
7/8-Bit Quad SPI Digital POT with Volatile Memory, 14-Pin TSSOP, Extended Temperature, Tape and Reel; Manufacturer: Microchip; PartNumber: MCP4332T-502E/ST; DatasheetVersion: revA, Mar-2010; PackageVersion: revBB, Aug-2009; PackageReference: TSSOP-ST14; PackageDescription: 14-Lead Plastic Thin Shrink Small Outline (ST) - 4.4mm Body [TSSOP]; Supplier 1: Digi-Key; Supplier Part Number 1: MCP4332T-502E/ST-ND; Mounting Technology: Surface Mount; ComponentLink1Description: Manufacturer URL; ComponentLink1URL: http://www.microchip.com/; ComponentLink2Description: Datasheet; ComponentLink2URL: http://ww1.microchip.com/downloads/en/DeviceDoc/22242A.pdf; ComponentLink3Description: Package Specification; ComponentLink3URL: http://www.microchip.com/stellent/groups/techpub_sg/documents/packagingspec/en012702.pdf
footprint TSSOP-ST14_N (TSOP, 14-Leads, Body 5x4.4mm, Pitch 0.65mm, IPC Medium Density)
footprint TSSOP-ST14_L (TSOP, 14-Leads, Body 5x4.4mm, Pitch 0.65mm, IPC High Density)
footprint TSSOP-ST14_M (TSOP, 14-Leads, Body 5x4.4mm, Pitch 0.65mm, IPC Low Density)
pins: 1 P3W, 2 P3B, 3 ~{CS} (in), 4 SCK (in), 5 SDI (in), 6 VSS (power), 7 P1B, 8 P1W, 9 P0W, 10 P0B, 11 SDO (out), 12 VDD (power), 13 P2B, 14 P2W

## MCP4332T-503E/ST
designator U?
7/8-Bit Quad SPI Digital POT with Volatile Memory, 14-Pin TSSOP, Extended Temperature, Tape and Reel; Manufacturer: Microchip; PartNumber: MCP4332T-503E/ST; DatasheetVersion: revA, Mar-2010; PackageVersion: revBB, Aug-2009; PackageReference: TSSOP-ST14; PackageDescription: 14-Lead Plastic Thin Shrink Small Outline (ST) - 4.4mm Body [TSSOP]; Supplier 1: Digi-Key; Supplier Part Number 1: MCP4332T-503E/ST-ND; Mounting Technology: Surface Mount; ComponentLink1Description: Manufacturer URL; ComponentLink1URL: http://www.microchip.com/; ComponentLink2Description: Datasheet; ComponentLink2URL: http://ww1.microchip.com/downloads/en/DeviceDoc/22242A.pdf; ComponentLink3Description: Package Specification; ComponentLink3URL: http://www.microchip.com/stellent/groups/techpub_sg/documents/packagingspec/en012702.pdf
footprint TSSOP-ST14_N (TSOP, 14-Leads, Body 5x4.4mm, Pitch 0.65mm, IPC Medium Density)
footprint TSSOP-ST14_L (TSOP, 14-Leads, Body 5x4.4mm, Pitch 0.65mm, IPC High Density)
footprint TSSOP-ST14_M (TSOP, 14-Leads, Body 5x4.4mm, Pitch 0.65mm, IPC Low Density)
pins: 1 P3W, 2 P3B, 3 ~{CS} (in), 4 SCK (in), 5 SDI (in), 6 VSS (power), 7 P1B, 8 P1W, 9 P0W, 10 P0B, 11 SDO (out), 12 VDD (power), 13 P2B, 14 P2W

## MCP4341-103E/ML
designator U?
7/8-Bit Quad SPI Digital POT with Non-Volatile Memory, 20-Pin QFN, Extended Temperature; Manufacturer: Microchip; PartNumber: MCP4341-103E/ML; DatasheetVersion: revA, Dec-2009; PackageVersion: revBB, Aug-2009; PackageReference: QFN-ML20; PackageDescription: 20-Lead Plastic Quad Flat, No Lead Package (ML) - 4x4x0.9 mm Body [QFN]; Supplier 1: Digi-Key; Supplier Part Number 1: MCP4341-103E/ML-ND; Mounting Technology: Surface Mount; ComponentLink1Description: Manufacturer URL; ComponentLink1URL: http://www.microchip.com/; ComponentLink2Description: Datasheet; ComponentLink2URL: http://ww1.microchip.com/downloads/en/DeviceDoc/22233a.pdf; ComponentLink3Description: Package Specification; ComponentLink3URL: http://www.microchip.com/stellent/groups/techpub_sg/documents/packagingspec/en012702.pdf
footprint QFN-ML20_N (QFN, 20-Leads, Body 4x4mm, Pitch 0.5mm, Thermal Pad 2.8x2.8mm, IPC Medium Density)
footprint QFN-ML20_L (QFN, 20-Leads, Body 4x4mm, Pitch 0.5mm, Thermal Pad 2.8x2.8mm, IPC High Density)
footprint QFN-ML20_M (QFN, 20-Leads, Body 4x4mm, Pitch 0.5mm, Thermal Pad 2.8x2.8mm, IPC Low Density)
pins: 1 P3B, 2 ~{CS} (in), 3 SCK (in), 4 SDI (in), 5 VSS (power), 6 P1B, 7 P1W, 8 P1A, 9 P0A, 10 P0W, 11 P0B, 12 ~{WP} (in), 13 ~{RESET} (in), 14 SDO (out), 15 VDD (power), 16 P2B, 17 P2W, 18 P2A, 19 P3A, 20 P3W, 21 EP

## MCP4341-103E/ST
designator U?
7/8-Bit Quad SPI Digital POT with Non-Volatile Memory, 20-Pin TSSOP, Extended Temperature; Manufacturer: Microchip; PartNumber: MCP4341-103E/ST; DatasheetVersion: revA, Dec-2009; PackageVersion: revBB, Aug-2009; PackageReference: TSSOP-ST20; PackageDescription: 20-Lead Plastic Thin Shrink Small Outline (ST) - 4.4mm Body [TSSOP]; Supplier 1: Digi-Key; Supplier Part Number 1: MCP4341-103E/ST-ND; Mounting Technology: Surface Mount; Code_JEDEC: MO-153-AC; ComponentLink1Description: Manufacturer URL; ComponentLink1URL: http://www.microchip.com/; ComponentLink2Description: Datasheet; ComponentLink2URL: http://ww1.microchip.com/downloads/en/DeviceDoc/22233a.pdf; ComponentLink3Description: Package Specification; ComponentLink3URL: http://www.microchip.com/stellent/groups/techpub_sg/documents/packagingspec/en012702.pdf
footprint TSSOP-ST20_N (TSOP, 20-Leads, Body 6.5x4.4mm, Pitch 0.65mm, IPC Medium Density)
footprint TSSOP-ST20_L (TSOP, 20-Leads, Body 6.5x4.4mm, Pitch 0.65mm, IPC High Density)
footprint TSSOP-ST20_M (TSOP, 20-Leads, Body 6.5x4.4mm, Pitch 0.65mm, IPC Low Density)
pins: 1 P3A, 2 P3W, 3 P3B, 4 ~{CS} (in), 5 SCK (in), 6 SDI (in), 7 VSS (power), 8 P1B, 9 P1W, 10 P1A, 11 P0A, 12 P0W, 13 P0B, 14 ~{WP} (in), 15 ~{RESET} (in), 16 SDO (out), 17 VDD (power), 18 P2B, 19 P2W, 20 P2A

## MCP4341-104E/ML
designator U?
7/8-Bit Quad SPI Digital POT with Non-Volatile Memory, 20-Pin QFN, Extended Temperature; Manufacturer: Microchip; PartNumber: MCP4341-104E/ML; DatasheetVersion: revA, Dec-2009; PackageVersion: revBB, Aug-2009; PackageReference: QFN-ML20; PackageDescription: 20-Lead Plastic Quad Flat, No Lead Package (ML) - 4x4x0.9 mm Body [QFN]; Supplier 1: Digi-Key; Supplier Part Number 1: MCP4341-104E/ML-ND; Mounting Technology: Surface Mount; ComponentLink1Description: Manufacturer URL; ComponentLink1URL: http://www.microchip.com/; ComponentLink2Description: Datasheet; ComponentLink2URL: http://ww1.microchip.com/downloads/en/DeviceDoc/22233a.pdf; ComponentLink3Description: Package Specification; ComponentLink3URL: http://www.microchip.com/stellent/groups/techpub_sg/documents/packagingspec/en012702.pdf
footprint QFN-ML20_N (QFN, 20-Leads, Body 4x4mm, Pitch 0.5mm, Thermal Pad 2.8x2.8mm, IPC Medium Density)
footprint QFN-ML20_L (QFN, 20-Leads, Body 4x4mm, Pitch 0.5mm, Thermal Pad 2.8x2.8mm, IPC High Density)
footprint QFN-ML20_M (QFN, 20-Leads, Body 4x4mm, Pitch 0.5mm, Thermal Pad 2.8x2.8mm, IPC Low Density)
pins: 1 P3B, 2 ~{CS} (in), 3 SCK (in), 4 SDI (in), 5 VSS (power), 6 P1B, 7 P1W, 8 P1A, 9 P0A, 10 P0W, 11 P0B, 12 ~{WP} (in), 13 ~{RESET} (in), 14 SDO (out), 15 VDD (power), 16 P2B, 17 P2W, 18 P2A, 19 P3A, 20 P3W, 21 EP

## MCP4341-104E/ST
designator U?
7/8-Bit Quad SPI Digital POT with Non-Volatile Memory, 20-Pin TSSOP, Extended Temperature; Manufacturer: Microchip; PartNumber: MCP4341-104E/ST; DatasheetVersion: revA, Dec-2009; PackageVersion: revBB, Aug-2009; PackageReference: TSSOP-ST20; PackageDescription: 20-Lead Plastic Thin Shrink Small Outline (ST) - 4.4mm Body [TSSOP]; Supplier 1: Digi-Key; Supplier Part Number 1: MCP4341-104E/ST-ND; Mounting Technology: Surface Mount; Code_JEDEC: MO-153-AC; ComponentLink1Description: Manufacturer URL; ComponentLink1URL: http://www.microchip.com/; ComponentLink2Description: Datasheet; ComponentLink2URL: http://ww1.microchip.com/downloads/en/DeviceDoc/22233a.pdf; ComponentLink3Description: Package Specification; ComponentLink3URL: http://www.microchip.com/stellent/groups/techpub_sg/documents/packagingspec/en012702.pdf
footprint TSSOP-ST20_N (TSOP, 20-Leads, Body 6.5x4.4mm, Pitch 0.65mm, IPC Medium Density)
footprint TSSOP-ST20_L (TSOP, 20-Leads, Body 6.5x4.4mm, Pitch 0.65mm, IPC High Density)
footprint TSSOP-ST20_M (TSOP, 20-Leads, Body 6.5x4.4mm, Pitch 0.65mm, IPC Low Density)
pins: 1 P3A, 2 P3W, 3 P3B, 4 ~{CS} (in), 5 SCK (in), 6 SDI (in), 7 VSS (power), 8 P1B, 9 P1W, 10 P1A, 11 P0A, 12 P0W, 13 P0B, 14 ~{WP} (in), 15 ~{RESET} (in), 16 SDO (out), 17 VDD (power), 18 P2B, 19 P2W, 20 P2A

## MCP4341-502E/ML
designator U?
7/8-Bit Quad SPI Digital POT with Non-Volatile Memory, 20-Pin QFN, Extended Temperature; Manufacturer: Microchip; PartNumber: MCP4341-502E/ML; DatasheetVersion: revA, Dec-2009; PackageVersion: revBB, Aug-2009; PackageReference: QFN-ML20; PackageDescription: 20-Lead Plastic Quad Flat, No Lead Package (ML) - 4x4x0.9 mm Body [QFN]; Supplier 1: Digi-Key; Supplier Part Number 1: MCP4341-502E/ML-ND; Mounting Technology: Surface Mount; ComponentLink1Description: Manufacturer URL; ComponentLink1URL: http://www.microchip.com/; ComponentLink2Description: Datasheet; ComponentLink2URL: http://ww1.microchip.com/downloads/en/DeviceDoc/22233a.pdf; ComponentLink3Description: Package Specification; ComponentLink3URL: http://www.microchip.com/stellent/groups/techpub_sg/documents/packagingspec/en012702.pdf
footprint QFN-ML20_N (QFN, 20-Leads, Body 4x4mm, Pitch 0.5mm, Thermal Pad 2.8x2.8mm, IPC Medium Density)
footprint QFN-ML20_L (QFN, 20-Leads, Body 4x4mm, Pitch 0.5mm, Thermal Pad 2.8x2.8mm, IPC High Density)
footprint QFN-ML20_M (QFN, 20-Leads, Body 4x4mm, Pitch 0.5mm, Thermal Pad 2.8x2.8mm, IPC Low Density)
pins: 1 P3B, 2 ~{CS} (in), 3 SCK (in), 4 SDI (in), 5 VSS (power), 6 P1B, 7 P1W, 8 P1A, 9 P0A, 10 P0W, 11 P0B, 12 ~{WP} (in), 13 ~{RESET} (in), 14 SDO (out), 15 VDD (power), 16 P2B, 17 P2W, 18 P2A, 19 P3A, 20 P3W, 21 EP

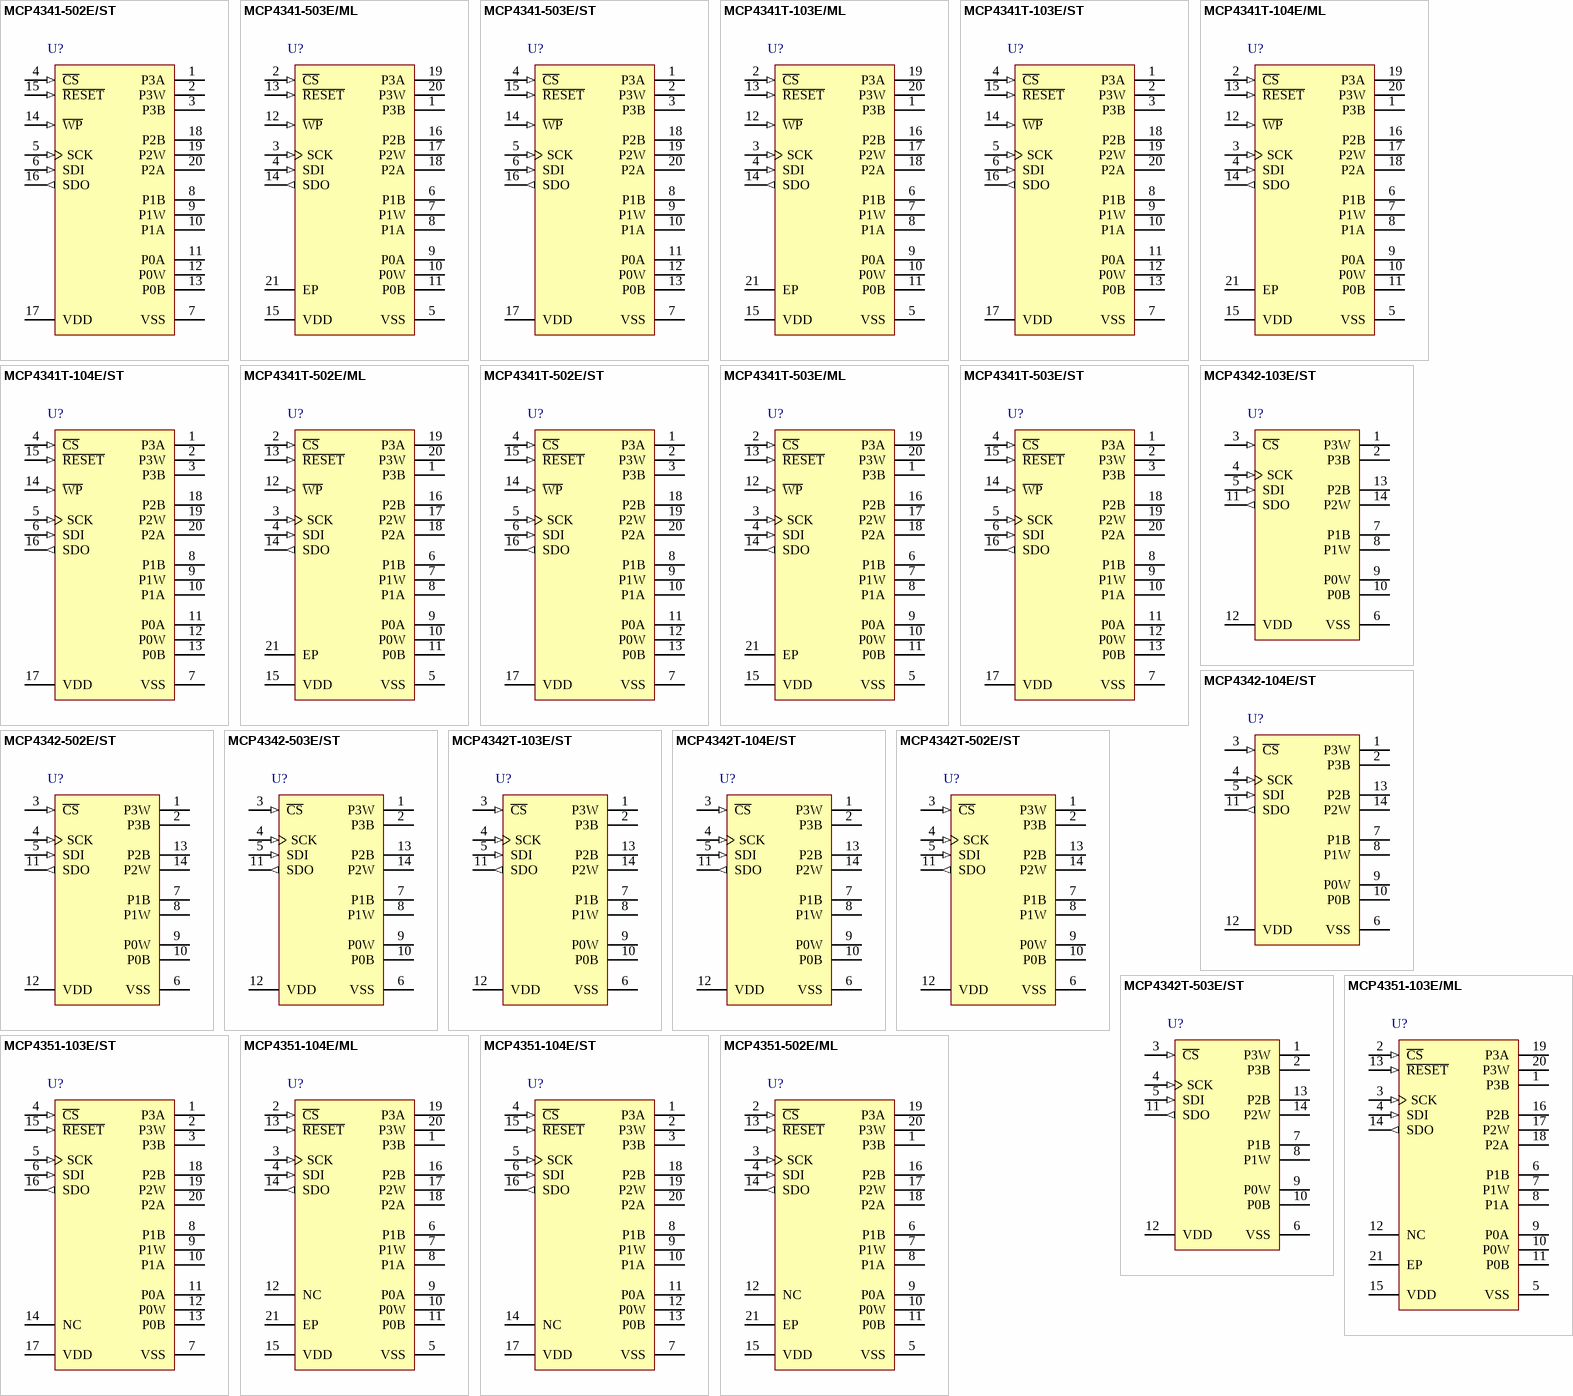
[diagram p21: symbols MCP4341-502E/ST to MCP4351-502E/ML]

## MCP4341-502E/ST
designator U?
7/8-Bit Quad SPI Digital POT with Non-Volatile Memory, 20-Pin TSSOP, Extended Temperature; Manufacturer: Microchip; PartNumber: MCP4341-502E/ST; DatasheetVersion: revA, Dec-2009; PackageVersion: revBB, Aug-2009; PackageReference: TSSOP-ST20; PackageDescription: 20-Lead Plastic Thin Shrink Small Outline (ST) - 4.4mm Body [TSSOP]; Supplier 1: Digi-Key; Supplier Part Number 1: MCP4341-502E/ST-ND; Mounting Technology: Surface Mount; Code_JEDEC: MO-153-AC; ComponentLink1Description: Manufacturer URL; ComponentLink1URL: http://www.microchip.com/; ComponentLink2Description: Datasheet; ComponentLink2URL: http://ww1.microchip.com/downloads/en/DeviceDoc/22233a.pdf; ComponentLink3Description: Package Specification; ComponentLink3URL: http://www.microchip.com/stellent/groups/techpub_sg/documents/packagingspec/en012702.pdf
footprint TSSOP-ST20_N (TSOP, 20-Leads, Body 6.5x4.4mm, Pitch 0.65mm, IPC Medium Density)
footprint TSSOP-ST20_L (TSOP, 20-Leads, Body 6.5x4.4mm, Pitch 0.65mm, IPC High Density)
footprint TSSOP-ST20_M (TSOP, 20-Leads, Body 6.5x4.4mm, Pitch 0.65mm, IPC Low Density)
pins: 1 P3A, 2 P3W, 3 P3B, 4 ~{CS} (in), 5 SCK (in), 6 SDI (in), 7 VSS (power), 8 P1B, 9 P1W, 10 P1A, 11 P0A, 12 P0W, 13 P0B, 14 ~{WP} (in), 15 ~{RESET} (in), 16 SDO (out), 17 VDD (power), 18 P2B, 19 P2W, 20 P2A

## MCP4341-503E/ML
designator U?
7/8-Bit Quad SPI Digital POT with Non-Volatile Memory, 20-Pin QFN, Extended Temperature; Manufacturer: Microchip; PartNumber: MCP4341-503E/ML; DatasheetVersion: revA, Dec-2009; PackageVersion: revBB, Aug-2009; PackageReference: QFN-ML20; PackageDescription: 20-Lead Plastic Quad Flat, No Lead Package (ML) - 4x4x0.9 mm Body [QFN]; Supplier 1: Digi-Key; Supplier Part Number 1: MCP4341-503E/ML-ND; Mounting Technology: Surface Mount; ComponentLink1Description: Manufacturer URL; ComponentLink1URL: http://www.microchip.com/; ComponentLink2Description: Datasheet; ComponentLink2URL: http://ww1.microchip.com/downloads/en/DeviceDoc/22233a.pdf; ComponentLink3Description: Package Specification; ComponentLink3URL: http://www.microchip.com/stellent/groups/techpub_sg/documents/packagingspec/en012702.pdf
footprint QFN-ML20_N (QFN, 20-Leads, Body 4x4mm, Pitch 0.5mm, Thermal Pad 2.8x2.8mm, IPC Medium Density)
footprint QFN-ML20_L (QFN, 20-Leads, Body 4x4mm, Pitch 0.5mm, Thermal Pad 2.8x2.8mm, IPC High Density)
footprint QFN-ML20_M (QFN, 20-Leads, Body 4x4mm, Pitch 0.5mm, Thermal Pad 2.8x2.8mm, IPC Low Density)
pins: 1 P3B, 2 ~{CS} (in), 3 SCK (in), 4 SDI (in), 5 VSS (power), 6 P1B, 7 P1W, 8 P1A, 9 P0A, 10 P0W, 11 P0B, 12 ~{WP} (in), 13 ~{RESET} (in), 14 SDO (out), 15 VDD (power), 16 P2B, 17 P2W, 18 P2A, 19 P3A, 20 P3W, 21 EP

## MCP4341-503E/ST
designator U?
7/8-Bit Quad SPI Digital POT with Non-Volatile Memory, 20-Pin TSSOP, Extended Temperature; Manufacturer: Microchip; PartNumber: MCP4341-503E/ST; DatasheetVersion: revA, Dec-2009; PackageVersion: revBB, Aug-2009; PackageReference: TSSOP-ST20; PackageDescription: 20-Lead Plastic Thin Shrink Small Outline (ST) - 4.4mm Body [TSSOP]; Supplier 1: Digi-Key; Supplier Part Number 1: MCP4341-503E/ST-ND; Mounting Technology: Surface Mount; Code_JEDEC: MO-153-AC; ComponentLink1Description: Manufacturer URL; ComponentLink1URL: http://www.microchip.com/; ComponentLink2Description: Datasheet; ComponentLink2URL: http://ww1.microchip.com/downloads/en/DeviceDoc/22233a.pdf; ComponentLink3Description: Package Specification; ComponentLink3URL: http://www.microchip.com/stellent/groups/techpub_sg/documents/packagingspec/en012702.pdf
footprint TSSOP-ST20_N (TSOP, 20-Leads, Body 6.5x4.4mm, Pitch 0.65mm, IPC Medium Density)
footprint TSSOP-ST20_L (TSOP, 20-Leads, Body 6.5x4.4mm, Pitch 0.65mm, IPC High Density)
footprint TSSOP-ST20_M (TSOP, 20-Leads, Body 6.5x4.4mm, Pitch 0.65mm, IPC Low Density)
pins: 1 P3A, 2 P3W, 3 P3B, 4 ~{CS} (in), 5 SCK (in), 6 SDI (in), 7 VSS (power), 8 P1B, 9 P1W, 10 P1A, 11 P0A, 12 P0W, 13 P0B, 14 ~{WP} (in), 15 ~{RESET} (in), 16 SDO (out), 17 VDD (power), 18 P2B, 19 P2W, 20 P2A

## MCP4341T-103E/ML
designator U?
7/8-Bit Quad SPI Digital POT with Non-Volatile Memory, 20-Pin QFN, Extended Temperature, Tape and Reel; Manufacturer: Microchip; PartNumber: MCP4341T-103E/ML; DatasheetVersion: revA, Dec-2009; PackageVersion: revBB, Aug-2009; PackageReference: QFN-ML20; PackageDescription: 20-Lead Plastic Quad Flat, No Lead Package (ML) - 4x4x0.9 mm Body [QFN]; Supplier 1: Digi-Key; Supplier Part Number 1: MCP4341T-103E/ML-ND; Mounting Technology: Surface Mount; ComponentLink1Description: Manufacturer URL; ComponentLink1URL: http://www.microchip.com/; ComponentLink2Description: Datasheet; ComponentLink2URL: http://ww1.microchip.com/downloads/en/DeviceDoc/22233a.pdf; ComponentLink3Description: Package Specification; ComponentLink3URL: http://www.microchip.com/stellent/groups/techpub_sg/documents/packagingspec/en012702.pdf
footprint QFN-ML20_N (QFN, 20-Leads, Body 4x4mm, Pitch 0.5mm, Thermal Pad 2.8x2.8mm, IPC Medium Density)
footprint QFN-ML20_L (QFN, 20-Leads, Body 4x4mm, Pitch 0.5mm, Thermal Pad 2.8x2.8mm, IPC High Density)
footprint QFN-ML20_M (QFN, 20-Leads, Body 4x4mm, Pitch 0.5mm, Thermal Pad 2.8x2.8mm, IPC Low Density)
pins: 1 P3B, 2 ~{CS} (in), 3 SCK (in), 4 SDI (in), 5 VSS (power), 6 P1B, 7 P1W, 8 P1A, 9 P0A, 10 P0W, 11 P0B, 12 ~{WP} (in), 13 ~{RESET} (in), 14 SDO (out), 15 VDD (power), 16 P2B, 17 P2W, 18 P2A, 19 P3A, 20 P3W, 21 EP

## MCP4341T-103E/ST
designator U?
7/8-Bit Quad SPI Digital POT with Non-Volatile Memory, 20-Pin TSSOP, Extended Temperature, Tape and Reel; Manufacturer: Microchip; PartNumber: MCP4341T-103E/ST; DatasheetVersion: revA, Dec-2009; PackageVersion: revBB, Aug-2009; PackageReference: TSSOP-ST20; PackageDescription: 20-Lead Plastic Thin Shrink Small Outline (ST) - 4.4mm Body [TSSOP]; Supplier 1: Digi-Key; Supplier Part Number 1: MCP4341T-103E/ST-ND; Mounting Technology: Surface Mount; Code_JEDEC: MO-153-AC; ComponentLink1Description: Manufacturer URL; ComponentLink1URL: http://www.microchip.com/; ComponentLink2Description: Datasheet; ComponentLink2URL: http://ww1.microchip.com/downloads/en/DeviceDoc/22233a.pdf; ComponentLink3Description: Package Specification; ComponentLink3URL: http://www.microchip.com/stellent/groups/techpub_sg/documents/packagingspec/en012702.pdf
footprint TSSOP-ST20_N (TSOP, 20-Leads, Body 6.5x4.4mm, Pitch 0.65mm, IPC Medium Density)
footprint TSSOP-ST20_L (TSOP, 20-Leads, Body 6.5x4.4mm, Pitch 0.65mm, IPC High Density)
footprint TSSOP-ST20_M (TSOP, 20-Leads, Body 6.5x4.4mm, Pitch 0.65mm, IPC Low Density)
pins: 1 P3A, 2 P3W, 3 P3B, 4 ~{CS} (in), 5 SCK (in), 6 SDI (in), 7 VSS (power), 8 P1B, 9 P1W, 10 P1A, 11 P0A, 12 P0W, 13 P0B, 14 ~{WP} (in), 15 ~{RESET} (in), 16 SDO (out), 17 VDD (power), 18 P2B, 19 P2W, 20 P2A

## MCP4341T-104E/ML
designator U?
7/8-Bit Quad SPI Digital POT with Non-Volatile Memory, 20-Pin QFN, Extended Temperature, Tape and Reel; Manufacturer: Microchip; PartNumber: MCP4341T-104E/ML; DatasheetVersion: revA, Dec-2009; PackageVersion: revBB, Aug-2009; PackageReference: QFN-ML20; PackageDescription: 20-Lead Plastic Quad Flat, No Lead Package (ML) - 4x4x0.9 mm Body [QFN]; Supplier 1: Digi-Key; Supplier Part Number 1: MCP4341T-104E/ML-ND; Mounting Technology: Surface Mount; ComponentLink1Description: Manufacturer URL; ComponentLink1URL: http://www.microchip.com/; ComponentLink2Description: Datasheet; ComponentLink2URL: http://ww1.microchip.com/downloads/en/DeviceDoc/22233a.pdf; ComponentLink3Description: Package Specification; ComponentLink3URL: http://www.microchip.com/stellent/groups/techpub_sg/documents/packagingspec/en012702.pdf
footprint QFN-ML20_N (QFN, 20-Leads, Body 4x4mm, Pitch 0.5mm, Thermal Pad 2.8x2.8mm, IPC Medium Density)
footprint QFN-ML20_L (QFN, 20-Leads, Body 4x4mm, Pitch 0.5mm, Thermal Pad 2.8x2.8mm, IPC High Density)
footprint QFN-ML20_M (QFN, 20-Leads, Body 4x4mm, Pitch 0.5mm, Thermal Pad 2.8x2.8mm, IPC Low Density)
pins: 1 P3B, 2 ~{CS} (in), 3 SCK (in), 4 SDI (in), 5 VSS (power), 6 P1B, 7 P1W, 8 P1A, 9 P0A, 10 P0W, 11 P0B, 12 ~{WP} (in), 13 ~{RESET} (in), 14 SDO (out), 15 VDD (power), 16 P2B, 17 P2W, 18 P2A, 19 P3A, 20 P3W, 21 EP

## MCP4341T-104E/ST
designator U?
7/8-Bit Quad SPI Digital POT with Non-Volatile Memory, 20-Pin TSSOP, Extended Temperature, Tape and Reel; Manufacturer: Microchip; PartNumber: MCP4341T-104E/ST; DatasheetVersion: revA, Dec-2009; PackageVersion: revBB, Aug-2009; PackageReference: TSSOP-ST20; PackageDescription: 20-Lead Plastic Thin Shrink Small Outline (ST) - 4.4mm Body [TSSOP]; Supplier 1: Digi-Key; Supplier Part Number 1: MCP4341T-104E/ST-ND; Mounting Technology: Surface Mount; Code_JEDEC: MO-153-AC; ComponentLink1Description: Manufacturer URL; ComponentLink1URL: http://www.microchip.com/; ComponentLink2Description: Datasheet; ComponentLink2URL: http://ww1.microchip.com/downloads/en/DeviceDoc/22233a.pdf; ComponentLink3Description: Package Specification; ComponentLink3URL: http://www.microchip.com/stellent/groups/techpub_sg/documents/packagingspec/en012702.pdf
footprint TSSOP-ST20_N (TSOP, 20-Leads, Body 6.5x4.4mm, Pitch 0.65mm, IPC Medium Density)
footprint TSSOP-ST20_L (TSOP, 20-Leads, Body 6.5x4.4mm, Pitch 0.65mm, IPC High Density)
footprint TSSOP-ST20_M (TSOP, 20-Leads, Body 6.5x4.4mm, Pitch 0.65mm, IPC Low Density)
pins: 1 P3A, 2 P3W, 3 P3B, 4 ~{CS} (in), 5 SCK (in), 6 SDI (in), 7 VSS (power), 8 P1B, 9 P1W, 10 P1A, 11 P0A, 12 P0W, 13 P0B, 14 ~{WP} (in), 15 ~{RESET} (in), 16 SDO (out), 17 VDD (power), 18 P2B, 19 P2W, 20 P2A

## MCP4341T-502E/ML
designator U?
7/8-Bit Quad SPI Digital POT with Non-Volatile Memory, 20-Pin QFN, Extended Temperature, Tape and Reel; Manufacturer: Microchip; PartNumber: MCP4341T-502E/ML; DatasheetVersion: revA, Dec-2009; PackageVersion: revBB, Aug-2009; PackageReference: QFN-ML20; PackageDescription: 20-Lead Plastic Quad Flat, No Lead Package (ML) - 4x4x0.9 mm Body [QFN]; Supplier 1: Digi-Key; Supplier Part Number 1: MCP4341T-502E/ML-ND; Mounting Technology: Surface Mount; ComponentLink1Description: Manufacturer URL; ComponentLink1URL: http://www.microchip.com/; ComponentLink2Description: Datasheet; ComponentLink2URL: http://ww1.microchip.com/downloads/en/DeviceDoc/22233a.pdf; ComponentLink3Description: Package Specification; ComponentLink3URL: http://www.microchip.com/stellent/groups/techpub_sg/documents/packagingspec/en012702.pdf
footprint QFN-ML20_N (QFN, 20-Leads, Body 4x4mm, Pitch 0.5mm, Thermal Pad 2.8x2.8mm, IPC Medium Density)
footprint QFN-ML20_L (QFN, 20-Leads, Body 4x4mm, Pitch 0.5mm, Thermal Pad 2.8x2.8mm, IPC High Density)
footprint QFN-ML20_M (QFN, 20-Leads, Body 4x4mm, Pitch 0.5mm, Thermal Pad 2.8x2.8mm, IPC Low Density)
pins: 1 P3B, 2 ~{CS} (in), 3 SCK (in), 4 SDI (in), 5 VSS (power), 6 P1B, 7 P1W, 8 P1A, 9 P0A, 10 P0W, 11 P0B, 12 ~{WP} (in), 13 ~{RESET} (in), 14 SDO (out), 15 VDD (power), 16 P2B, 17 P2W, 18 P2A, 19 P3A, 20 P3W, 21 EP